# Altium footprint library Net173.PcbLib: 25 footprints (part 2 of 2)
Each footprint in its own frame and in the unit in brackets; x right, y up, seen from the top. Pads: shape width x height; smd on the part's side, far side on the other; paste and mask are expansions set on the pad; w line width, h text height; cw(c..) or ccw(c..) is an arc to the next point about the centre after c.
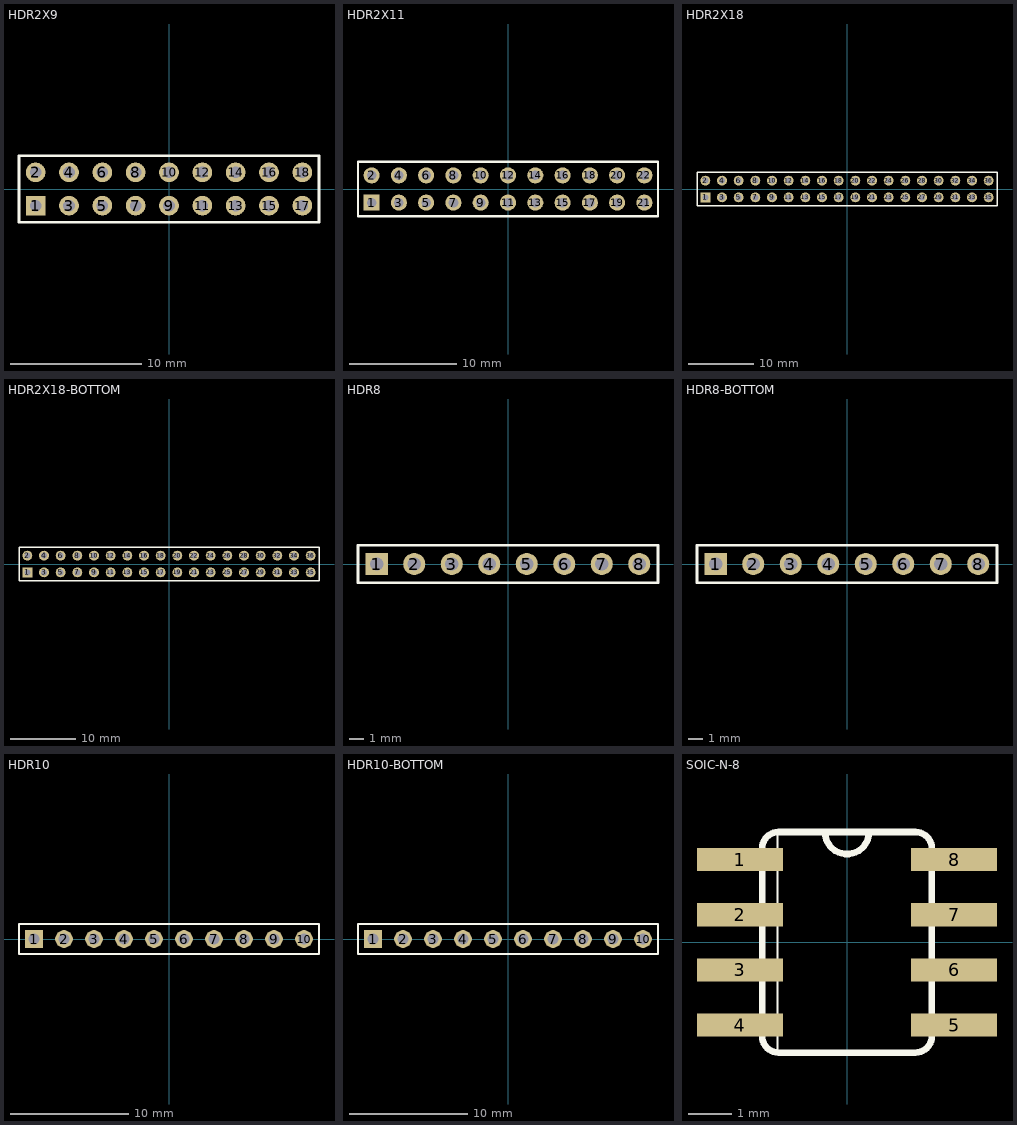
[diagram p1: the footprints below, top view; thin cyan lines are the x and y axes]

## HDR2X9 [mm] "Connector; Header; 9x2 Position"
pads (18):
  rect 1.5x1.5 hole 0.9: 1(-10.16,-1.27)
  round 1.5 hole 0.9: 2(-10.16,1.27) 3(-7.62,-1.27) 4(-7.62,1.27) 5(-5.08,-1.27) 6(-5.08,1.27) 7(-2.54,-1.27) 8(-2.54,1.27) 9(0,-1.27) 10(0,1.27) 11(2.54,-1.27) 12(2.54,1.27) 13(5.08,-1.27) 14(5.08,1.27) 15(7.62,-1.27) 16(7.62,1.27) 17(10.16,-1.27) 18(10.16,1.27)
Top Overlay:
  lines w0.2: -11.43,-2.54 11.43,-2.54 11.43,2.54 -11.43,2.54 -11.43,-2.54
Mechanical 16:
  text "18" at 11.938,0.635 h1.27
  text "17" at 11.938,-1.905 h1.27
  text "1" at -12.446,-1.905 h1.27
  text "2" at -12.7,0.635 h1.27
3D body "hdr2x9.STEP": height 8.61, standoff -2.99, extent -11.43,-2.54 11.43,2.54

## HDR2X11 [mm] "Connector; Header; 11x2 Position"
pads (22):
  rect 1.5x1.5 hole 0.9: 1(-12.7,-1.27)
  round 1.5 hole 0.9: 2(-12.7,1.27) 3(-10.16,-1.27) 4(-10.16,1.27) 5(-7.62,-1.27) 6(-7.62,1.27) 7(-5.08,-1.27) 8(-5.08,1.27) 9(-2.54,-1.27) 10(-2.54,1.27) 11(0,-1.27) 12(0,1.27) 13(2.54,-1.27) 14(2.54,1.27) 15(5.08,-1.27) 16(5.08,1.27) 17(7.62,-1.27) 18(7.62,1.27) 19(10.16,-1.27) 20(10.16,1.27) 21(12.7,-1.27) 22(12.7,1.27)
Top Overlay:
  lines w0.2: -13.97,-2.54 -13.97,2.54 13.97,2.54 13.97,-2.54 -13.97,-2.54
Mechanical 16:
  text "1" at -14.986,-1.905 h1.27
  text "2" at -15.24,0.635 h1.27
  text "21" at 14.478,-1.905 h1.27
  text "22" at 14.478,0.635 h1.27
3D body "hdr2x11.STEP": height 8.61, standoff -2.99, extent -13.97,-2.54 13.97,2.54

## HDR2X18 [mm]
pads (36):
  rect 1.5x1.5 hole 0.9: 1(-21.59,-1.27)
  round 1.5 hole 0.9: 2(-21.59,1.27) 3(-19.05,-1.27) 4(-19.05,1.27) 5(-16.51,-1.27) 6(-16.51,1.27) 7(-13.97,-1.27) 8(-13.97,1.27) 9(-11.43,-1.27) 10(-11.43,1.27) 11(-8.89,-1.27) 12(-8.89,1.27) 13(-6.35,-1.27) 14(-6.35,1.27) 15(-3.81,-1.27) 16(-3.81,1.27) 17(-1.27,-1.27) 18(-1.27,1.27) 19(1.27,-1.27) 20(1.27,1.27) 21(3.81,-1.27) 22(3.81,1.27) 23(6.35,-1.27) 24(6.35,1.27) 25(8.89,-1.27) 26(8.89,1.27) 27(11.43,-1.27) 28(11.43,1.27) 29(13.97,-1.27) 30(13.97,1.27) 31(16.51,-1.27) 32(16.51,1.27) 33(19.05,-1.27) 34(19.05,1.27) 35(21.59,-1.27) 36(21.59,1.27)
Top Overlay:
  lines w0.2: -22.86,-2.54 22.86,-2.54 22.86,2.54 -22.86,2.54 -22.86,-2.54
Mechanical 16:
  text "36" at 23.368,0.635 h1.27
  text "35" at 23.368,-1.905 h1.27
  text "1" at -23.876,-1.905 h1.27
  text "2" at -24.13,0.635 h1.27
3D body "hdr2x18.STEP": height 8.61, standoff -2.99, extent -22.86,-2.54 22.86,2.54

## HDR2X18-BOTTOM [mm]
pads (36):
  rect 1.5x1.5 hole 0.9: 1(-21.59,-1.27)
  round 1.5 hole 0.9: 2(-21.59,1.27) 3(-19.05,-1.27) 4(-19.05,1.27) 5(-16.51,-1.27) 6(-16.51,1.27) 7(-13.97,-1.27) 8(-13.97,1.27) 9(-11.43,-1.27) 10(-11.43,1.27) 11(-8.89,-1.27) 12(-8.89,1.27) 13(-6.35,-1.27) 14(-6.35,1.27) 15(-3.81,-1.27) 16(-3.81,1.27) 17(-1.27,-1.27) 18(-1.27,1.27) 19(1.27,-1.27) 20(1.27,1.27) 21(3.81,-1.27) 22(3.81,1.27) 23(6.35,-1.27) 24(6.35,1.27) 25(8.89,-1.27) 26(8.89,1.27) 27(11.43,-1.27) 28(11.43,1.27) 29(13.97,-1.27) 30(13.97,1.27) 31(16.51,-1.27) 32(16.51,1.27) 33(19.05,-1.27) 34(19.05,1.27) 35(21.59,-1.27) 36(21.59,1.27)
Top Overlay:
  lines w0.2: -22.86,-2.54 -22.86,2.54 22.86,2.54 22.86,-2.54 -22.86,-2.54
Mechanical 16:
  text "2" at -24.13,0.635 h1.27
  text "1" at -23.876,-1.905 h1.27
  text "35" at 23.368,-1.905 h1.27
  text "36" at 23.368,0.635 h1.27
3D body "hdr2x18.STEP": height 8.61, standoff -2.99, extent -22.86,-2.54 22.86,2.54

## HDR8 [mm]
pads (8):
  rect 1.5x1.5 hole 0.9: 1(-8.89,0)
  round 1.5 hole 0.9: 2(-6.35,0) 3(-3.81,0) 4(-1.27,0) 5(1.27,0) 6(3.81,0) 7(6.35,0) 8(8.89,0)
Top Overlay:
  lines w0.2: -10.16,-1.27 10.16,-1.27 10.16,1.27 -10.16,1.27 -10.16,-1.27
3D body "hdr8.STEP": height 9.11, standoff -2.49, extent -10.16,-1.27 10.16,1.27

## HDR8-BOTTOM [mm]
pads (8):
  rect 1.5x1.5 hole 0.9: 1(-8.89,0)
  round 1.5 hole 0.9: 2(-6.35,0) 3(-3.81,0) 4(-1.27,0) 5(1.27,0) 6(3.81,0) 7(6.35,0) 8(8.89,0)
Top Overlay:
  lines w0.2: -10.16,-1.27 10.16,-1.27 10.16,1.27 -10.16,1.27 -10.16,-1.27
3D body "hdr8.STEP": height 9.11, standoff -2.49, extent -10.16,-1.27 10.16,1.27

## HDR10 [mm]
pads (10):
  rect 1.5x1.5 hole 0.9: 1(-11.43,0)
  round 1.5 hole 0.9: 2(-8.89,0) 3(-6.35,0) 4(-3.81,0) 5(-1.27,0) 6(1.27,0) 7(3.81,0) 8(6.35,0) 9(8.89,0) 10(11.43,0)
Top Overlay:
  lines w0.2: -12.7,-1.27 -12.7,1.27 12.7,1.27 12.7,-1.27 -12.7,-1.27
3D body "hdr10.STEP": height 9.11, standoff -2.49, extent -12.7,-1.27 12.7,1.27

## HDR10-BOTTOM [mm]
pads (10):
  rect 1.5x1.5 hole 0.9: 1(-11.43,0)
  round 1.5 hole 0.9: 2(-8.89,0) 3(-6.35,0) 4(-3.81,0) 5(-1.27,0) 6(1.27,0) 7(3.81,0) 8(6.35,0) 9(8.89,0) 10(11.43,0)
Top Overlay:
  lines w0.2: -12.7,-1.27 12.7,-1.27 12.7,1.27 -12.7,1.27 -12.7,-1.27
3D body "hdr10.STEP": height 9.11, standoff -2.49, extent -12.7,-1.27 12.7,1.27

## SOIC-N-8 [mm]
pads (8):
  rect 1.98x0.53 smd: 1(-2.465,1.905) 2(-2.465,0.635) 3(-2.465,-0.635) 4(-2.465,-1.905) 5(2.465,-1.905) 6(2.465,-0.635) 7(2.465,0.635) 8(2.465,1.905)
Top Overlay:
  lines w0.051: -1.6,-2.54 -1.6,2.54
  lines w0.152: -0.508,2.54 ccw(c0,2.54) 0.508,2.54 ; -0.508,2.54 -1.575,2.54 ccw(c-1.575,2.159) -1.956,2.159 -1.956,-2.159 ccw(c-1.575,-2.159) -1.575,-2.54 1.575,-2.54 ccw(c1.575,-2.159) 1.956,-2.159 1.956,2.159 ccw(c1.575,2.159) 1.575,2.54 0.508,2.54 ; -0.508,2.54 0.508,2.54
Mechanical 16:
  region: 1.956,2.159 1.956,1.651 3.099,1.651 3.099,2.159
  region: 1.956,0.889 1.956,0.381 3.099,0.381 3.099,0.889
  region: 1.956,-0.381 1.956,-0.889 3.099,-0.889 3.099,-0.381
  region: -3.099,-1.651 -3.099,-2.159 -1.956,-2.159 -1.956,-1.651
  region: -3.073,-0.381 -3.073,-0.889 -1.93,-0.889 -1.93,-0.381
  region: -3.099,0.889 -3.099,0.381 -1.956,0.381 -1.956,0.889
  region: -3.099,2.159 -3.099,1.651 -1.956,1.651 -1.956,2.159
  region: 1.956,-1.651 1.956,-2.159 3.099,-2.159 3.099,-1.651
3D body "SOIC08-150.STEP": height 1.76, standoff 0.01, extent -2.9,-2.4 2.9,2.4